# EAGLE library part MC14584BCPG (library ON_Semiconductor_By_element14_Batch_1)
Hex Schmitt Trigger
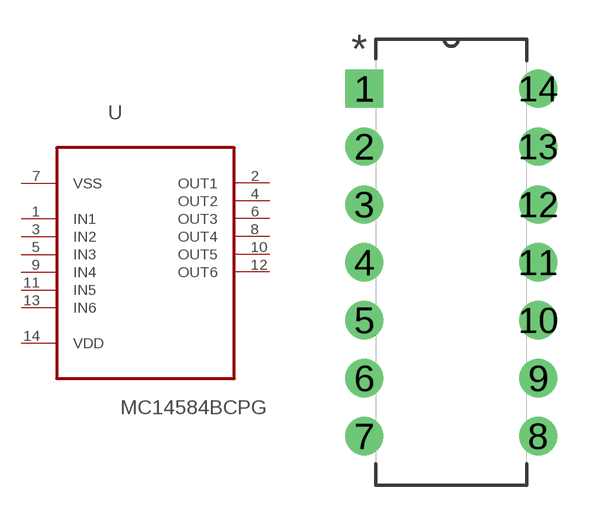
[diagram p306: symbol with the pads of DIP254P762X469-14; footprint DIP254P762X469-14]

Designator prefix U

## MC14584BCPG (MPN: MC14584BCPG; OC_FARNELL: 9665099; OC_NEWARK: 45J1139; PACKAGE: DIP-14; SUPPLIER: On Semiconductors)  [DIP254P762X469-14]
1  IN1  in
2  OUT1  out
3  IN2  in
4  OUT2  out
5  IN3  in
6  OUT3  out
7  VSS  pwr
8  OUT4  out
9  IN4  in
10  OUT5  out
11  IN5  in
12  OUT6  out
13  IN6  in
14  VDD  pwr

## Footprint DIP254P762X469-14 (pad centres in mm)
drill 1.118 square: 1 -7.62,15.24
drill 1.118: 2 -7.62,12.7; 3 -7.62,10.16; 4 -7.62,7.62; 5 -7.62,5.08; 6 -7.62,2.54; 7 -7.62,0; 8 0,0; 9 0,2.54; 10 0,5.08; 11 0,7.62; 12 0,10.16; 13 0,12.7; 14 0,15.24